# Altium footprint library Zener Diode.PcbLib: 2 footprints
Each footprint in its own frame and in the unit in brackets; x right, y up, seen from the top. Pads: shape width x height; smd on the part's side, far side on the other; paste and mask are expansions set on the pad; w line width, h text height; cw(c..) or ccw(c..) is an arc to the next point about the centre after c.
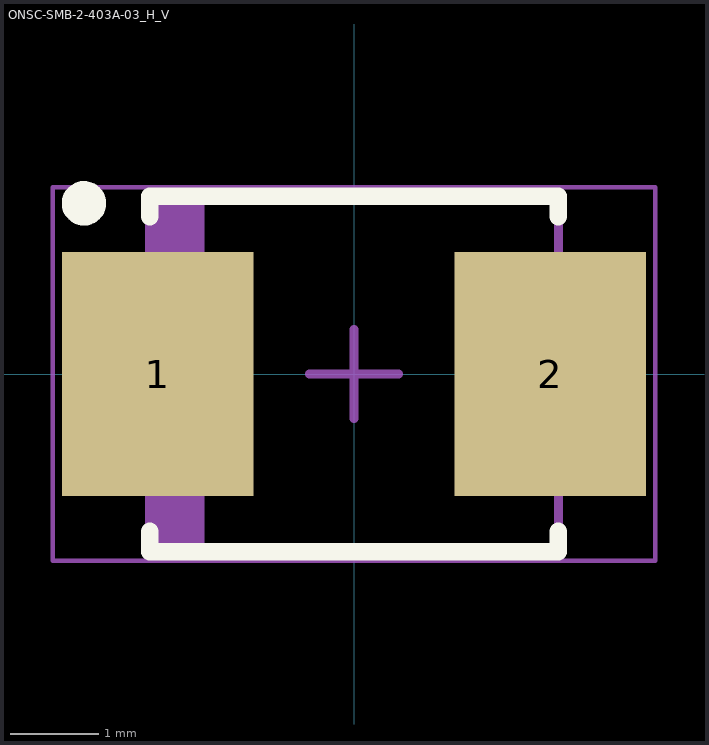
[diagram p0: the footprints below, top view; thin cyan lines are the x and y axes]

## ONSC-SMB-2-403A-03_H_V [mil] "Molded, 2-Leads, Body 4.6x3.95mm"
height 95.28
pads (2):
  rect 85x107.99 smd: 1(-87.01,0) 2(87.01,0)
Top Overlay:
  circle w9.84: c-119.67,75.65 r4.92
  lines w7.87: -90.55,-69.74 -90.55,-78.74 90.55,-78.74 90.55,-69.74 ; -90.55,69.74 -90.55,78.74 90.55,78.74 90.55,69.74
Mechanical 13:
  rectangle: -90.55,-77.76 -66.19,77.76
  lines w3.94: -90.55,-77.76 -90.55,77.76 90.55,77.76 90.55,-77.76 -90.55,-77.76
Mechanical 15:
  lines w1.97: -133.44,-82.68 -133.44,82.68 133.44,82.68 133.44,-82.68 -133.44,-82.68
  lines w3.94: -19.69,0 19.68,0 ; 0,-19.68 0,19.69
3D body: height 95.28, standoff 0, extent -90.55,-77.76 90.55,77.76

## PCBComponent_1 [mil]